# EAGLE library part TERMINAL-3.5X8 (library Connector)
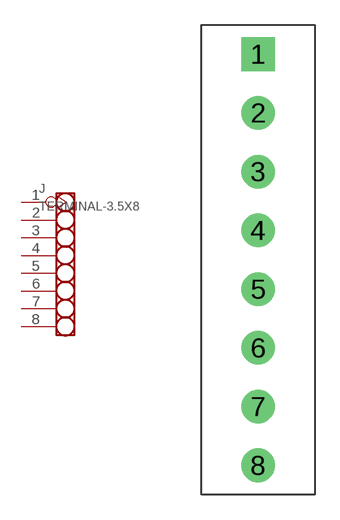
[diagram p32: symbol with the pads of 8P-3.5; footprint 8P-3.5]

Designator prefix J

## TERMINAL-3.5X8  [8P-3.5]
1  1
2  2
3  3
4  4
5  5
6  6
7  7
8  8

## Footprint 8P-3.5 (pad centres in mm)
drill 1.016 pad 2.032 square: 1 0,12.319
drill 1.016 pad 2.032 round: 2 0,8.763; 3 0,5.207; 4 0,1.651; 5 0,-1.905; 6 0,-5.461; 7 0,-9.017; 8 0,-12.573